# Altium schematic symbol library Capacitors.SchLib: 77 symbols (part 2 of 2)
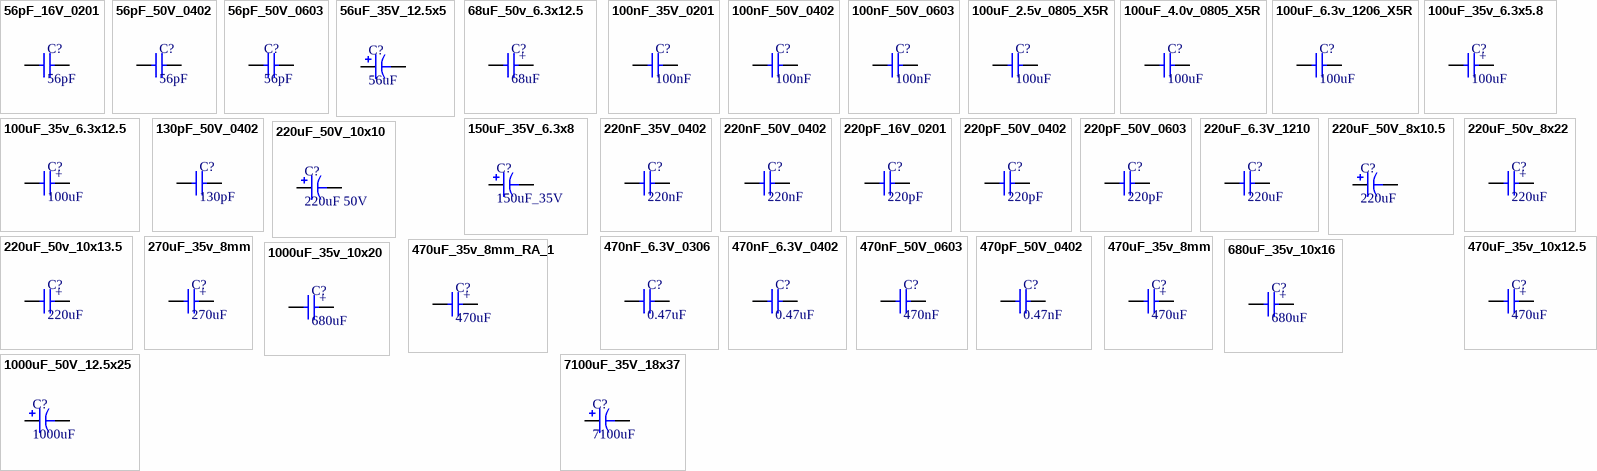
[diagram p2: symbols 56pF_16V_0201 to 7100uF_35V_18x37]

## 68uF_50v_6.3x12.5
designator C?, comment 68uF
CAP ALUM 68UF 20% 50V RADIAL; Manufacturer: Nichicon; Manufacturer Part Number: UVK1H680MED1TD; Lifetime @ Temp.: 2000 Hrs @ 85°C; Polarization: Polar; Supplier 1: Digi-Key; RoHS: RoHS Compliant; Category: Capacitors; Stock 1: 1147; Pricing 1: 1=0.31, 10=0.216, 100=0.1297, 500=0.09726, 1000=0.08213 (USD); Packaging: Cut Tape (CT); Part Status: Active; Tolerance: ±20%; ESR (Equivalent Series Resistance): -; Operating Temperature: -40°C ~ 85°C; Ratings: -; Applications: General Purpose; Lead Spacing: 0.098" (2.50mm); Size / Dimension: 0.248" Dia (6.30mm); Height - Seated (Max): 0.492" (12.50mm); Surface Mount Land Size: -; Mounting Type: Through Hole; Package / Case: Radial, Can; ComponentLink1URL: http://nichicon-us.com/english/products/pdfs/e-uvk.pdf; ComponentLink1Description: http://nichicon-us.com/english/products/pdfs/e-uvk.pdf; Supplier Part Number 1: 493-12580-1-ND
footprint CapAlu6.3mmx12.5mm (Capacitor Aluminum 6.3mm OD)
pins: 1, 2
text: +

## 100nF_35V_0201
designator C?, comment 100nF
CAP CER 0.1UF 35V X5R 0201; Manufacturer: Taiyo Yuden; Manufacturer Part Number: GMK063BJ104KP-F; Tolerance: ±10%; Notification: Current market demand for these product types have resulted in fluctuating and extending lead times. Lead times may differ.; Supplier 1: Digi-Key; RoHS: RoHS Compliant; Category: Capacitors; Stock 1: 20719; Pricing 1: 1=0.16, 10=0.115, 100=0.0541, 500=0.03792, 1000=0.03139, 2500=0.02922, 5000=0.02673 (USD); Packaging: Cut Tape (CT); Part Status: Active; Voltage - Rated: 35V; Temperature Coefficient: X5R; Operating Temperature: -55°C ~ 85°C; Features: -; Ratings: -; Applications: SMPS Filtering; Failure Rate: -; Mounting Type: Surface Mount, MLCC; Package / Case: 0201 (0603 Metric); Size / Dimension: 0.024" L x 0.012" W (0.60mm x 0.30mm); Height - Seated (Max): -; Thickness (Max): 0.015" (0.39mm); Lead Spacing: -; Lead Style: -; ComponentLink1URL: http://ds.yuden.co.jp/TYCOMPAS/ut/detail.do?productNo=GMK063BJ104KP-F&fileName=GMK063BJ104KP-F_SS&mode=specSheetDownload; ComponentLink1Description: http://ds.yuden.co.jp/TYCOMPAS/ut/detail.do?productNo=GMK063BJ104KP-F&fileName=GMK063BJ104KP-F_SS&mode=specSheetDownload; Supplier Part Number 1: 587-6007-1-ND
footprint CAPC0603X03N (Chip Capacitor, 2-Leads, Body 0.60x0.30mm, IPC Medium Density)
pins: 1, 2

## 100nF_50V_0402
designator C?, comment 100nF
CAP CER 100NF 50V 20% X5R 0402; Manufacturer: TDK Corporation; Manufacturer Part Number: C1005X5R1H104M050BB; Capacitance: 0.1µF; Supplier 1: Digi-Key; RoHS: RoHS Compliant; Category: Capacitors; Stock 1: 218263; Pricing 1: 1=0.18, 10=0.122, 100=0.0579, 250=0.04872, 500=0.0408, 1000=0.03348, 5000=0.02831 (CAD); Packaging: Cut Tape (CT); Tolerance: ±20%; Voltage - Rated: 50V; Temperature Coefficient: X5R; Mounting Type: Surface Mount, MLCC; Operating Temperature: -55°C ~ 85°C; Applications: General Purpose; Ratings: -; Package / Case: 0402 (1005 Metric); Size / Dimension: 0.039" L x 0.020" W (1.00mm x 0.50mm); Height - Seated (Max): -; Thickness (Max): 0.022" (0.55mm); Lead Spacing: -; Features: -; Lead Style: -; ComponentLink1URL: http://product.tdk.com/en/catalog/datasheets/mlcc_commercial_general_en.pdf; ComponentLink1Description: http://product.tdk.com/en/catalog/datasheets/mlcc_commercial_general_en.pdf; Supplier Part Number 1: 445-5943-1-ND
footprint CAP_0402_M (Chip Capacitor, 2-Leads, Body 1.00x0.50mm, IPC Medium Density)
footprint CAP_0402_L (Chip Capacitor, 2-Leads, Body 1.00x0.50mm, IPC High Density)
pins: 1, 2

## 100nF_50V_0603
designator C?, comment 100nF
CAP CER 0.1UF 50V 20% X7R 0603; Manufacturer: Kemet; Manufacturer Part Number: C0603C104M5RACTU; Capacitance: 0.1µF; Supplier 1: Digi-Key; Supplier Part Number 1: 399-7845-1-ND; RoHS: RoHS Compliant; Category: Capacitors; Stock 1: 171007; Pricing 1: 1=0.13, 10=0.034, 25=0.024, 50=0.0184, 100=0.0155, 250=0.01268, 1000=0.0083 (CAD); Packaging: Cut Tape (CT); Tolerance: ±20%; Voltage - Rated: 50V; Temperature Coefficient: X7R; Mounting Type: Surface Mount, MLCC; Operating Temperature: -55°C ~ 125°C; Applications: General Purpose; Ratings: -; Package / Case: 0603 (1608 Metric); Size / Dimension: 0.063" L x 0.031" W (1.60mm x 0.80mm); Height - Seated (Max): -; Thickness (Max): 0.034" (0.87mm); Lead Spacing: -; Features: -; Lead Style: -; ComponentLink1URL: http://www.kemet.com/docfinder?Partnumber=C0603C104M5RACTU; ComponentLink1Description: http://www.kemet.com/docfinder?Partnumber=C0603C104M5RACTU
footprint CAP_0603 (Chip Capacitor, 2-Leads, Body 1,6x0,8mm, IPC High Density)
pins: 1, 2

## 100uF_2.5v_0805_X5R
designator C?, comment 100uF
CAP CER 100UF 2.5V X5R 0805; Manufacturer: Murata Electronics North America; Manufacturer Part Number: GRM21BR60E107ME15L; Tolerance: ±20%; Notification: Current market demand for these product types have resulted in fluctuating and extending lead times. Lead times may differ.; Supplier 1: Digi-Key; RoHS: RoHS Compliant; Category: Capacitors; Stock 1: 30000; Pricing 1: 1=1.21, 10=0.956, 100=0.7167, 500=0.54154, 1000=0.47783 (USD); Packaging: Cut Tape (CT); Part Status: Active; Voltage - Rated: 2.5V; Temperature Coefficient: X5R; Operating Temperature: -55°C ~ 85°C; Features: -; Ratings: -; Applications: General Purpose; Mounting Type: Surface Mount, MLCC; Package / Case: 0805 (2012 Metric); Size / Dimension: 0.079" L x 0.049" W (2.00mm x 1.25mm); Height - Seated (Max): -; Thickness (Max): 0.057" (1.45mm); Lead Spacing: -; Lead Style: -; ComponentLink1URL: http://search.murata.co.jp/Ceramy/image/img/A01X/G101/ENG/GRM21BR60E107ME15-01.pdf; ComponentLink1Description: http://search.murata.co.jp/Ceramy/image/img/A01X/G101/ENG/GRM21BR60E107ME15-01.pdf; Supplier Part Number 1: 490-13979-1-ND
footprint CAPC2012X10L (Chip Capacitor, 2-Leads, Body 2.00x1.25mm, IPC High Density)
pins: 1, 2

## 100uF_4.0v_0805_X5R
designator C?, comment 100uF
CAP CER 100UF 4.0V X5R 0805; Manufacturer: Murata Electronics North America; Manufacturer Part Number: GRM21BR60G107ME15L; Tolerance: ±20%; Voltage - Rated: 4V; Notification: Current market demand for these product types have resulted in fluctuating and extending lead times. Lead times may differ.; Supplier 1: Digi-Key; RoHS: RoHS Compliant; Category: Capacitors; Stock 1: 30000; Pricing 1: 1=1.21, 10=0.956, 100=0.7167, 500=0.54154, 1000=0.47783 (USD); Packaging: Cut Tape (CT); Part Status: Active; Temperature Coefficient: X5R; Operating Temperature: -55°C ~ 85°C; Features: -; Ratings: -; Applications: General Purpose; Mounting Type: Surface Mount, MLCC; Package / Case: 0805 (2012 Metric); Size / Dimension: 0.079" L x 0.049" W (2.00mm x 1.25mm); Height - Seated (Max): -; Thickness (Max): 0.057" (1.45mm); Lead Spacing: -; Lead Style: -; ComponentLink1URL: https://search.murata.co.jp/Ceramy/image/img/A01X/partnumbering_e_01.pdf; ComponentLink1Description: https://search.murata.co.jp/Ceramy/image/img/A01X/partnumbering_e_01.pdf; Supplier Part Number 1: 490-10510-1-ND
footprint CAPC2012X10L (Chip Capacitor, 2-Leads, Body 2.00x1.25mm, IPC High Density)
pins: 1, 2

## 100uF_6.3v_1206_X5R
designator C?, comment 100uF
CAP CER 100UF 6.3V X5R 1206; Manufacturer: Murata Electronics North America; Manufacturer Part Number: GRM31CR60J107ME39L; Capacitance: 100µF; Tolerance: ±20%; Supplier 1: Digi-Key; RoHS: RoHS Compliant; Category: Capacitors; Stock 1: 450179; Pricing 1: 1=1.23, 10=1.048, 50=0.771, 100=0.6128, 250=0.51396, 500=0.46456, 1000=0.42502 (CAD); Packaging: Cut Tape (CT); Voltage - Rated: 6.3V; Temperature Coefficient: X5R; Mounting Type: Surface Mount, MLCC; Operating Temperature: -55°C ~ 85°C; Applications: General Purpose; Ratings: -; Package / Case: 1206 (3216 Metric); Size / Dimension: 0.126" L x 0.063" W (3.20mm x 1.60mm); Height - Seated (Max): -; Thickness (Max): 0.071" (1.80mm); Lead Spacing: -; Features: -; Lead Style: -; ComponentLink1URL: http://www.murata.com/~/media/webrenewal/support/library/catalog/products/capacitor/mlcc/c02e.pdf; ComponentLink1Description: http://www.murata.com/~/media/webrenewal/support/library/catalog/products/capacitor/mlcc/c02e.pdf; Supplier Part Number 1: 490-4539-1-ND
footprint CAP_1206 (Chip Capacitor, 2-Leads, Body 3,1x1,6mm, IPC High Density)
pins: 1, 2

## 100uF_35v_6.3x5.8
designator C?, comment 100uF
Capacitor 35v 100uF 6.3mm; Manufacturer: Panasonic Electronic Components; Manufacturer Part Number: EEE-FT1V101AP; Capacitance: 100µF; Tolerance: ±20%; ESR (Equivalent Series Resistance): 260 mOhm; Lifetime @ Temp.: 2000 Hrs @ 105°C; Ripple Current: 195mA; Surface Mount Land Size: 0.260" L x 0.260" W (6.60mm x 6.60mm); Supplier 1: Digi-Key; RoHS: RoHS Compliant; Category: Capacitors; Stock 1: 18000; Pricing 1: 1=1.12, 10=0.943, 25=0.774, 50=0.6754, 100=0.5911, 250=0.4644, 500=0.42218 (CAD); Packaging: Cut Tape (CT); Voltage Rating: 35V; Operating Temperature: -55°C ~ 105°C; Type: -; Applications: Automotive; Impedance: -; Lead Spacing: -; Size / Dimension: 0.248" Dia (6.30mm); Height - Seated (Max): 0.240" (6.10mm); Mounting Type: Surface Mount; Package / Case: Radial, Can - SMD; ComponentLink1URL: http://industrial.panasonic.com/lecs/www-data/pdf/ABA0000/ABA0000CE135.pdf; ComponentLink1Description: http://industrial.panasonic.com/lecs/www-data/pdf/ABA0000/ABA0000CE135.pdf; Supplier Part Number 1: PCE5016CT-ND
footprint CAPAE7266X66M (Aluminum Electrolytic Capacitor, Body 6.60x6.60x6.60mm, IPC Low Density)
pins: 1, 2
text: +

## 100uF_35v_6.3x12.5
designator C?, comment 100uF
Capacitor 35v 100uF 6.3mm; Manufacturer: Nichicon; Manufacturer Part Number: UHV1V101MED; Capacitance: 100µF; Tolerance: ±20%; Lifetime @ Temp.: 5000 Hrs @ 105°C; Polarization: Polar; Ripple Current: 220mA @ 120Hz; Impedance: 100 mOhm; Supplier 1: Digi-Key; RoHS: RoHS Compliant; Category: Capacitors; Stock 1: 5561; Pricing 1: 1=0.46, 10=0.32, 25=0.262, 50=0.224, 100=0.1919, 250=0.15992, 500=0.14394, 1000=0.12155, 2500=0.11515 (CAD); Packaging: Bulk; Voltage Rating: 35V; ESR (Equivalent Series Resistance): -; Operating Temperature: -40°C ~ 105°C; Applications: General Purpose; Lead Spacing: 0.098" (2.50mm); Size / Dimension: 0.248" Dia (6.30mm); Height - Seated (Max): 0.492" (12.50mm); Surface Mount Land Size: -; Mounting Type: Through Hole; Package / Case: Radial, Can; ComponentLink1URL: http://nichicon-us.com/english/products/pdfs/e-uhv.pdf; ComponentLink1Description: http://nichicon-us.com/english/products/pdfs/e-uhv.pdf; Supplier Part Number 1: 493-13394-ND
footprint CapAlu6.3mmx12.5mm (Capacitor Aluminum 6.3mm OD)
pins: 1, 2
text: +

## 130pF_50V_0402
designator C?, comment 130pF
CAP CER 130PF 50V NP0 0402; Manufacturer: Murata Electronics North America; Manufacturer Part Number: GRM1555C1H131JA01D; Tolerance: ±5%; Temperature Coefficient: C0G, NP0; Supplier 1: Digi-Key; Supplier Part Number 1: 490-3228-1-ND; RoHS: RoHS Compliant; Category: Capacitors; Stock 1: 45827; Pricing 1: 1=0.15, 10=0.096, 50=0.0522, 100=0.0443, 250=0.03616, 500=0.03094, 1000=0.0241, 5000=0.02008 (CAD); Packaging: Cut Tape (CT); Capacitance: 130pF; Voltage - Rated: 50V; Mounting Type: Surface Mount, MLCC; Operating Temperature: -55°C ~ 125°C; Applications: General Purpose; Ratings: -; Package / Case: 0402 (1005 Metric); Size / Dimension: 0.039" L x 0.020" W (1.00mm x 0.50mm); Height - Seated (Max): -; Thickness (Max): 0.022" (0.55mm); Lead Spacing: -; Features: -; Lead Style: -; ComponentLink1URL: http://www.murata.com/~/media/webrenewal/support/library/catalog/products/capacitor/mlcc/c02e.pdf; ComponentLink1Description: http://www.murata.com/~/media/webrenewal/support/library/catalog/products/capacitor/mlcc/c02e.pdf
footprint CAP_0402_M (Chip Capacitor, 2-Leads, Body 1.00x0.50mm, IPC Medium Density)
pins: 1, 2

## 150uF_35V_6.3x8
designator C?, comment 150uF_35V
on 150µF 35V Aluminum Capacitors Radial, Can - SMD 160 mohm @ 100kHz 2000 Hrs @ 105°C; Manufacturer: Panasonic Electronic Components; Manufacturer Part Number: EEE-FTV151XAP; Tolerance: ±20%; Polarization: Polar; Ripple Current: 390mA @ 120Hz; Surface Mount Land Size: 0.260" L x 0.260" W (6.60mm x 6.60mm); Supplier 1: Digi-Key; RoHS: RoHS Compliant; Category: Capacitors; Stock 1: 24581; Pricing 1: 1=1.33, 10=1.134, 25=0.9412, 50=0.8338, 100=0.6629, 250=0.55592 (CAD); Packaging: Cut Tape (CT); Part Status: Active; Capacitance: 150µF; Voltage Rating: 35V; ESR (Equivalent Series Resistance): 160 mohm @ 100kHz; Lifetime @ Temp.: 2000 Hrs @ 105°C; Operating Temperature: -55°C ~ 105°C; Applications: General Purpose; Impedance: -; Lead Spacing: -; Size / Dimension: 0.248" Dia (6.30mm); Height - Seated (Max): 0.315" (8.00mm); Mounting Type: Surface Mount; Package / Case: Radial, Can - SMD; ComponentLink1URL: http://industrial.panasonic.com/cdbs/www-data/pdf/RDE0000/ABA0000C35.pdf; ComponentLink1Description: http://industrial.panasonic.com/cdbs/www-data/pdf/RDE0000/ABA0000C35.pdf; Supplier Part Number 1: PCE5017CT-ND
footprint CAPAE_66X66X8 (Aluminum Electrolytic Capacitor, Body 6.60x6.60x7.70mm, IPC Low Density)
pins: 1, 2

## 220nF_35V_0402
designator C?, comment 220nF
CAP CER 220NF 35V 20% X6S 0402; Manufacturer: Murata Electronics North America; Manufacturer Part Number: GRM155C8YA224ME01D; Capacitance: 0.22µF; Supplier 1: Digi-Key; RoHS: RoHS Compliant; Category: Capacitors; Stock 1: 8546; Pricing 1: 1=0.14, 10=0.062, 50=0.0336, 100=0.0283, 250=0.02316, 500=0.0198, 1000=0.01542, 5000=0.01285 (CAD); Packaging: Cut Tape (CT); Tolerance: ±20%; Voltage - Rated: 35V; Temperature Coefficient: X6S; Mounting Type: Surface Mount, MLCC; Operating Temperature: -55°C ~ 105°C; Applications: General Purpose; Ratings: -; Package / Case: 0402 (1005 Metric); Size / Dimension: 0.039" L x 0.020" W (1.00mm x 0.50mm); Height - Seated (Max): -; Thickness (Max): 0.022" (0.55mm); Lead Spacing: -; Features: -; Lead Style: -; ComponentLink1URL: http://www.murata.com/~/media/webrenewal/support/library/catalog/products/capacitor/mlcc/c02e.ashx; ComponentLink1Description: http://www.murata.com/~/media/webrenewal/support/library/catalog/products/capacitor/mlcc/c02e.ashx; Supplier Part Number 1: 490-10446-1-ND
footprint CAP_0402_M (Chip Capacitor, 2-Leads, Body 1.00x0.50mm, IPC Medium Density)
pins: 1, 2

## 220nF_50V_0402
designator C?, comment 220nF
CAP CER 220NF 50V 10% X5R 0402; Manufacturer: Taiyo Yuden; Manufacturer Part Number: UMK105BJ224KV-F; Capacitance: 0.22µF; Supplier 1: Digi-Key; RoHS: RoHS Compliant; Category: Capacitors; Stock 1: 143890; Pricing 1: 1=0.47, 10=0.356, 50=0.2072, 100=0.1657, 250=0.1184, 500=0.0805, 1000=0.06511, 5000=0.0509 (CAD); Packaging: Cut Tape (CT); Tolerance: ±10%; Voltage - Rated: 50V; Temperature Coefficient: X5R; Mounting Type: Surface Mount, MLCC; Operating Temperature: -55°C ~ 85°C; Applications: General Purpose; Ratings: -; Package / Case: 0402 (1005 Metric); Size / Dimension: 0.039" L x 0.020" W (1.00mm x 0.50mm); Height - Seated (Max): -; Thickness (Max): 0.022" (0.55mm); Lead Spacing: -; Features: -; Lead Style: -; ComponentLink1URL: http://www.yuden.co.jp/productdata/catalog/en/mlcc_all_e.pdf; ComponentLink1Description: http://www.yuden.co.jp/productdata/catalog/en/mlcc_all_e.pdf; Supplier Part Number 1: 587-3500-1-ND
footprint CAP_0402_M (Chip Capacitor, 2-Leads, Body 1.00x0.50mm, IPC Medium Density)
pins: 1, 2

## 220pF_16V_0201
designator C?, comment 220pF
CAP CER 220PF 16V X7R 0201; Manufacturer: Samsung Electro-Mechanics; Manufacturer Part Number: CL03B221KO3NNNC; Tolerance: ±10%; Notification: Current market demand for these product types have resulted in fluctuating and extending lead times. Lead times may differ.; Supplier 1: Digi-Key; RoHS: RoHS Compliant; Category: Capacitors; Stock 1: 8828; Pricing 1: 1=0.12, 10=0.087, 100=0.0389, 500=0.02778, 1000=0.02182, 2500=0.01984, 5000=0.01825 (USD); Packaging: Cut Tape (CT); Part Status: Active; Voltage - Rated: 16V; Temperature Coefficient: X7R; Operating Temperature: -55°C ~ 125°C; Features: -; Ratings: -; Applications: General Purpose; Mounting Type: Surface Mount, MLCC; Package / Case: 0201 (0603 Metric); Size / Dimension: 0.024" L x 0.012" W (0.60mm x 0.30mm); Height - Seated (Max): -; Thickness (Max): 0.013" (0.33mm); Lead Spacing: -; Lead Style: -; ComponentLink1URL: http://www.samsungsem.com/kr/support/product-search/mlcc/CL03B221KO3NNNC.jsp; ComponentLink1Description: http://www.samsungsem.com/kr/support/product-search/mlcc/CL03B221KO3NNNC.jsp; Supplier Part Number 1: 1276-1348-1-ND
footprint CAPC0603X03N (Chip Capacitor, 2-Leads, Body 0.60x0.30mm, IPC Medium Density)
pins: 1, 2

## 220pF_50V_0402
designator C?, comment 220pF
CAP CER 220PF 50V 5% X7R 0402; Manufacturer: Kemet; Manufacturer Part Number: C0402C221J5RACTU; Supplier 1: Digi-Key; RoHS: RoHS Compliant; Category: Capacitors; Stock 1: 29330; Pricing 1: 1=0.14, 10=0.051, 50=0.0282, 100=0.0238, 250=0.01948, 500=0.01666, 1000=0.01299, 2500=0.01169, 5000=0.01082 (CAD); Packaging: Cut Tape (CT); Capacitance: 220pF; Tolerance: ±5%; Voltage - Rated: 50V; Temperature Coefficient: X7R; Mounting Type: Surface Mount, MLCC; Operating Temperature: -55°C ~ 125°C; Applications: General Purpose; Ratings: -; Package / Case: 0402 (1005 Metric); Size / Dimension: 0.039" L x 0.020" W (1.00mm x 0.50mm); Height - Seated (Max): -; Thickness (Max): 0.022" (0.55mm); Lead Spacing: -; Features: -; Lead Style: -; ComponentLink1URL: http://www.kemet.com/docfinder?Partnumber=C0402C221J5RACTU; ComponentLink1Description: http://www.kemet.com/docfinder?Partnumber=C0402C221J5RACTU; Supplier Part Number 1: 399-8955-1-ND
footprint CAP_0402_M (Chip Capacitor, 2-Leads, Body 1.00x0.50mm, IPC Medium Density)
pins: 1, 2

## 220pF_50V_0603
designator C?, comment 220pF
CAP CER 220PF 50V 10% X7R 0603; Manufacturer: Kemet; Manufacturer Part Number: C0603C221K5RACTU; Supplier 1: Digi-Key; Supplier Part Number 1: 399-1071-1-ND; RoHS: RoHS Compliant; Category: Capacitors; Stock 1: 237279; Pricing 1: 1=0.13, 10=0.061, 25=0.0424, 50=0.0326, 100=0.0276, 250=0.0226, 1000=0.01476 (CAD); Packaging: Cut Tape (CT); Capacitance: 220pF; Tolerance: ±10%; Voltage - Rated: 50V; Temperature Coefficient: X7R; Mounting Type: Surface Mount, MLCC; Operating Temperature: -55°C ~ 125°C; Applications: General Purpose; Ratings: -; Package / Case: 0603 (1608 Metric); Size / Dimension: 0.063" L x 0.031" W (1.60mm x 0.80mm); Height - Seated (Max): -; Thickness (Max): 0.034" (0.87mm); Lead Spacing: -; Features: -; Lead Style: -; ComponentLink1URL: http://www.kemet.com/docfinder?Partnumber=C0603C221K5RACTU; ComponentLink1Description: http://www.kemet.com/docfinder?Partnumber=C0603C221K5RACTU
footprint CAP_0603 (Chip Capacitor, 2-Leads, Body 1,6x0,8mm, IPC High Density)
pins: 1, 2

## 220uF_6.3V_1210
designator C?, comment 220uF
220µF Conformal Coated Tantalum Capacitors 6.3V 1210; Manufacturer: AVX Corporation; Manufacturer Part Number: F950J227MBAAQ2; Manufacturer Size Code: B; Tolerance: ±20%; ESR (Equivalent Series Resistance): 400 mOhm; Supplier 1: Digi-Key; Supplier Part Number 1: 478-8404-1-ND; RoHS: RoHS Compliant; Category: Capacitors; Stock 1: 8643; Pricing 1: 1=1.95, 10=1.577, 25=1.434, 50=1.3764, 100=1.2044, 250=1.03236, 500=0.91766, 1000=0.80296 (USD); Packaging: Cut Tape (CT); Part Status: Active; Capacitance: 220µF; Voltage - Rated: 6.3V; Type: Conformal Coated; Operating Temperature: -55°C ~ 125°C; Mounting Type: Surface Mount; Package / Case: 1210 (3528 Metric); Size / Dimension: 0.138" L x 0.110" W (3.50mm x 2.80mm); Height - Seated (Max): 0.079" (2.00mm); Lead Spacing: -; Features: General Purpose; Lifetime @ Temp.: -; ComponentLink1URL: http://datasheets.avx.com/f95.pdf; ComponentLink1Description: http://datasheets.avx.com/f95.pdf
footprint CAPCP3528X20N (Chip Capacitor, 2-Leads, Body 3.50x2.80mm, IPC Medium Density)
pins: 1, 2

## 220uF_50V_8x10.5
designator C?, comment 220uF
CAP ALUM 220UF 20% 50V SMD; Manufacturer: Panasonic Electronic Components; Manufacturer Part Number: EEE-FT1H221AP; Capacitance: 220µF; ESR (Equivalent Series Resistance): 180 mOhm; Lifetime @ Temp.: 2000 Hrs @ 105°C; Ripple Current: 435.5mA; Surface Mount Land Size: 0.327" L x 0.327" W (8.30mm x 8.30mm); Supplier 1: Digi-Key; Supplier Part Number 1: PCE5025CT-ND; RoHS: RoHS Compliant; Category: Capacitors; Stock 1: 17071; Pricing 1: 1=1.47, 10=1.238, 25=1.0668, 50=1.0008, 100=0.9086, 250=0.79004 (CAD); Packaging: Cut Tape (CT); Tolerance: ±20%; Voltage Rating: 50V; Operating Temperature: -55°C ~ 105°C; Type: -; Applications: Automotive; Impedance: -; Lead Spacing: -; Size / Dimension: 0.315" Dia (8.00mm); Height - Seated (Max): 0.413" (10.50mm); Mounting Type: Surface Mount; Package / Case: Radial, Can - SMD; ComponentLink1URL: http://industrial.panasonic.com/lecs/www-data/pdf/ABA0000/ABA0000CE135.pdf; ComponentLink1Description: http://industrial.panasonic.com/lecs/www-data/pdf/ABA0000/ABA0000CE135.pdf
footprint CapAlu8mmx10.5mm_SMT (Capacitor Aluminum 8mm)
pins: 1, 2

## 220uF_50v_8x22
designator C?, comment 220uF
CAP ALUM 220UF 20% 50V THRU HOLE; Manufacturer: Panasonic; Manufacturer Part Number: EEUFS1H221L; Supplier 1: Digi-Key; Stock 1: 3417; Pricing 1: 1=0.7, 10=0.497, 100=0.3272, 500=0.2424, 1000=0.206, 2500=0.1939, 5000=0.1818 (USD); Supplier Part Number 1: P122401-ND
footprint Cap 8mm RA 22mm long
pins: 1, 2
text: +

## 220uF_50V_10x10
designator C?, comment 220uF 50V
CAP ALUM 220UF 20% 50V SMD; Manufacturer: Nichicon; Manufacturer Part Number: UWT1H221MNL1GS; Capacitance: 220µF; Lifetime @ Temp.: 1000 Hrs @ 105°C; Ripple Current: 220mA; Surface Mount Land Size: 0.406" L x 0.406" W (10.30mm x 10.30mm); Supplier 1: Digi-Key; Supplier Part Number 1: 493-2228-1-ND; RoHS: RoHS Compliant; Category: Capacitors; Stock 1: 15581; Pricing 1: 1=1.09, 10=1.041, 25=0.7376, 50=0.621, 100=0.5047, 250=0.41928 (CAD); Packaging: Cut Tape (CT); Tolerance: ±20%; Voltage Rating: 50V; ESR (Equivalent Series Resistance): -; Operating Temperature: -55°C ~ 105°C; Type: -; Applications: General Purpose; Impedance: -; Lead Spacing: -; Size / Dimension: 0.394" Dia (10.00mm); Height - Seated (Max): 0.394" (10.00mm); Mounting Type: Surface Mount; Package / Case: Radial, Can - SMD; ComponentLink1URL: http://nichicon-us.com/english/products/pdfs/e-wt.pdf; ComponentLink1Description: http://nichicon-us.com/english/products/pdfs/e-wt.pdf
footprint CAPALU10MMx10MM_SMT
pins: 1, 2

## 220uF_50v_10x13.5
designator C?, comment 220uF
CAP ALUM 220UF 50V 20% RADIAL; Manufacturer: Panasonic Electronic Components; Manufacturer Part Number: ECA-1HM221; Capacitance: 220µF; Lifetime @ Temp.: 2000 Hrs @ 85°C; Ripple Current: 400mA; Supplier 1: Digi-Key; Supplier Part Number 1: P5183-ND; RoHS: RoHS Compliant; Category: Capacitors; Stock 1: 35580; Pricing 1: 1=0.57, 50=0.3014, 100=0.2626, 500=0.19448, 1000=0.16531, 5000=0.14586, 10000=0.13614, 25000=0.13127 (CAD); Packaging: Bulk; Tolerance: ±20%; Voltage Rating: 50V; ESR (Equivalent Series Resistance): -; Operating Temperature: -40°C ~ 85°C; Type: -; Applications: General Purpose; Impedance: -; Lead Spacing: 0.197" (5.00mm); Size / Dimension: 0.394" Dia (10.00mm); Height - Seated (Max): 0.531" (13.50mm); Surface Mount Land Size: -; Mounting Type: Through Hole; Package / Case: Radial, Can; ComponentLink1URL: http://industrial.panasonic.com/www-cgi/jvcr13pz.cgi?E+PZ+3+ABA0012+ECA1HM221+7+WW; ComponentLink1Description: http://industrial.panasonic.com/www-cgi/jvcr13pz.cgi?E+PZ+3+ABA0012+ECA1HM221+7+WW
footprint CapAlu10mmx13.5mm (Capacitor Aluminum 10mm OD)
pins: 1, 2
text: +

## 270uF_35v_8mm
designator C?, comment 270uF
CAP ALUM 270UF 20% 35V RADIAL; Manufacturer: Nichicon; Manufacturer Part Number: UHV1V271MPD; Lifetime @ Temp.: 6000 Hrs @ 105°C; Polarization: Polar; Supplier 1: Digi-Key; RoHS: RoHS Compliant; Category: Capacitors; Stock 1: 1488; Pricing 1: 1=0.43, 10=0.305, 100=0.2007, 500=0.14868, 1000=0.12638, 2500=0.11894, 5000=0.11151 (USD); Packaging: Bulk; Part Status: Active; Tolerance: ±20%; ESR (Equivalent Series Resistance): -; Operating Temperature: -40°C ~ 105°C; Ratings: -; Applications: General Purpose; Lead Spacing: 0.138" (3.50mm); Size / Dimension: 0.315" Dia (8.00mm); Height - Seated (Max): 0.650" (16.50mm); Surface Mount Land Size: -; Mounting Type: Through Hole; Package / Case: Radial, Can; ComponentLink1URL: http://nichicon-us.com/english/products/pdfs/e-uhv.pdf; ComponentLink1Description: http://nichicon-us.com/english/products/pdfs/e-uhv.pdf; Supplier Part Number 1: 493-16313-ND
footprint Cap 8mm x 16.5mm
pins: 1, 2
text: +

## 470nF_6.3V_0306
designator C?, comment 0.47uF
CAP CER 0.47UF 50V 10% X5R 0306; Manufacturer: TDK Corporation; Manufacturer Part Number: C0816X5R0J474M050AC; Capacitance: 0.47µF; Tolerance: ±20%; Voltage - Rated: 6.3V; Supplier 1: Digi-Key; RoHS: RoHS Compliant; Category: Capacitors; Stock 1: 3919; Pricing 1: 1=0.64, 10=0.56, 100=0.2795, 250=0.22352, 500=0.20358, 1000=0.18362 (CAD); Packaging: Cut Tape (CT); Temperature Coefficient: X5R; Mounting Type: Surface Mount, MLCC; Operating Temperature: -55°C ~ 85°C; Applications: Bypass, Decoupling; Ratings: -; Package / Case: 0306 (0816 Metric); Size / Dimension: 0.031" L x 0.063" W (0.80mm x 1.60mm); Height - Seated (Max): -; Thickness (Max): 0.035" (0.90mm); Lead Spacing: -; Features: Low ESL (Reverse Geometry); Lead Style: -; ComponentLink1URL: https://product.tdk.com/info/en/catalog/datasheets/mlcc_commercial_lwreverse_en.pdf; ComponentLink1Description: https://product.tdk.com/info/en/catalog/datasheets/mlcc_commercial_lwreverse_en.pdf; Supplier Part Number 1: 445-13744-1-ND
footprint CAPC0816X09N (Chip Capacitor, 2-Leads, Body 0.80x1.60mm, IPC Medium Density)
pins: 1, 2

## 470nF_6.3V_0402
designator C?, comment 0.47uF
CAP CER 0.47UF 50V 10% X5R 0402; Manufacturer: Murata Electronics North America; Manufacturer Part Number: GRM155R60J474KE19D; Capacitance: 0.47µF; Voltage - Rated: 6.3V; Supplier 1: Digi-Key; Supplier Part Number 1: 490-3266-1-ND; RoHS: RoHS Compliant; Category: Capacitors; Stock 1: 911073; Pricing 1: 1=0.15, 10=0.106, 50=0.0578, 100=0.049, 250=0.04008, 500=0.0343, 1000=0.02673, 5000=0.02228 (CAD); Packaging: Cut Tape (CT); Tolerance: ±10%; Temperature Coefficient: X5R; Mounting Type: Surface Mount, MLCC; Operating Temperature: -55°C ~ 85°C; Applications: General Purpose; Ratings: -; Package / Case: 0402 (1005 Metric); Size / Dimension: 0.039" L x 0.020" W (1.00mm x 0.50mm); Height - Seated (Max): -; Thickness (Max): 0.022" (0.55mm); Lead Spacing: -; Features: -; Lead Style: -; ComponentLink1URL: http://www.murata.com/~/media/webrenewal/support/library/catalog/products/capacitor/mlcc/c02e.pdf; ComponentLink1Description: http://www.murata.com/~/media/webrenewal/support/library/catalog/products/capacitor/mlcc/c02e.pdf
footprint CAP_0402_M (Chip Capacitor, 2-Leads, Body 1.00x0.50mm, IPC Medium Density)
pins: 1, 2

## 470nF_50V_0603
designator C?, comment 470nF
CAP CER 0.47UF 50V 10% X5R 0603; Manufacturer: Taiyo Yuden; Manufacturer Part Number: UMK107ABJ474KA-T; Capacitance: 0.47µF; Supplier 1: Digi-Key; Supplier Part Number 1: 587-3171-1-ND; RoHS: RoHS Compliant; Category: Capacitors; Stock 1: 269861; Pricing 1: 1=0.14, 10=0.104, 50=0.0566, 100=0.0479, 250=0.0392, 500=0.03356, 1000=0.02564 (CAD); Packaging: Cut Tape (CT); Tolerance: ±10%; Voltage - Rated: 50V; Temperature Coefficient: X5R; Mounting Type: Surface Mount, MLCC; Operating Temperature: -55°C ~ 85°C; Applications: General Purpose; Ratings: -; Package / Case: 0603 (1608 Metric); Size / Dimension: 0.063" L x 0.031" W (1.60mm x 0.80mm); Height - Seated (Max): -; Thickness (Max): 0.037" (0.95mm); Lead Spacing: -; Features: -; Lead Style: -; ComponentLink1URL: http://media.digikey.com/pdf/Data%20Sheets/Taiyo%20Yuden%20PDFs%20URL%20links/UMK107ABJ474KA-T.pdf; ComponentLink1Description: http://media.digikey.com/pdf/Data%20Sheets/Taiyo%20Yuden%20PDFs%20URL%20links/UMK107ABJ474KA-T.pdf
footprint CAP_0603 (Chip Capacitor, 2-Leads, Body 1,6x0,8mm, IPC High Density)
pins: 1, 2

## 470pF_50V_0402
designator C?, comment 0.47nF
CAP CER 470PF 50V X5R 0402; Manufacturer: TDK Corporation; Manufacturer Part Number: C1005X5R1H471M050BA; Tolerance: ±20%; Supplier 1: Digi-Key; RoHS: RoHS Compliant; Category: Capacitors; Stock 1: 36562; Pricing 1: 1=0.15, 10=0.036, 100=0.0167, 250=0.01368, 500=0.0117, 1000=0.00912, 5000=0.0076 (CAD); Packaging: Cut Tape (CT); Capacitance: 470pF; Voltage - Rated: 50V; Temperature Coefficient: X5R; Mounting Type: Surface Mount, MLCC; Operating Temperature: -55°C ~ 85°C; Applications: General Purpose; Ratings: -; Package / Case: 0402 (1005 Metric); Size / Dimension: 0.039" L x 0.020" W (1.00mm x 0.50mm); Height - Seated (Max): -; Thickness (Max): 0.022" (0.55mm); Lead Spacing: -; Features: -; Lead Style: -; ComponentLink1URL: https://product.tdk.com/info/en/catalog/datasheets/mlcc_commercial_general_en.pdf; ComponentLink1Description: https://product.tdk.com/info/en/catalog/datasheets/mlcc_commercial_general_en.pdf; Supplier Part Number 1: 445-13856-1-ND
footprint CAP_0402_M (Chip Capacitor, 2-Leads, Body 1.00x0.50mm, IPC Medium Density)
pins: 1, 2

## 470uF_35v_8mm
designator C?, comment 470uF
CAP ALUM 470UF 20% 35V RADIAL; Manufacturer: Panasonic ECG; Manufacturer Part Number: EEU-FR1V471LB; Ripple Current: 1.56A; Impedance: 30mR; Polarity: Polar; Life (Hours): 9000Hour; Lead Diameter: 0.6mm; Supplier 1: Digi-Key; Supplier Part Number 1: P15392CT-ND; Stock 1: 7144; Pricing 1: 1=0.79, 10=0.557, 100=0.3671, 500=0.2719 (USD); Mount: Through Hole,PCB; Case/Package: Radial; Contact Plating: Tin; Min Operating Temperature: -40°C; Max Operating Temperature: 105°C; Capacitance: 470uF; Tolerance: 20%; Voltage Rating: 35V; Voltage Rating (DC): 35V; Package Quantity: 1; Packaging: Tape and Reel; ESR (Equivalent Series Resistance): 30mR; Termination: Radial; Diameter: 8mm; Length: 20mm; Height: 20mm; Lead Pitch: 5mm; Height - Seated (Max): 0.866inch; Radiation Hardening: No; REACH SVHC: No SVHC; Lead Free: Lead Free; ComponentLink1URL: https://datasheet.ciiva.com/6121/1725490-6121558.pdf; ComponentLink1Description: https://datasheet.ciiva.com/6121/1725490-6121558.pdf; ComponentLink2URL: https://datasheet.ciiva.com/11678/aba0000ce132-11678326.pdf; ComponentLink2Description: https://datasheet.ciiva.com/11678/aba0000ce132-11678326.pdf; ComponentLink3URL: https://datasheet.ciiva.com/16592/aba0000ce132-16592279.pdf; ComponentLink3Description: https://datasheet.ciiva.com/16592/aba0000ce132-16592279.pdf
footprint Cap 8mm
pins: 1, 2
text: +

## 470uF_35v_8mm_RA_1
designator C?, comment 470uF
CAP ALUM 470UF 35V 20% RADIAL; Manufacturer: Panasonic Electronic Components; Manufacturer Part Number: EEU-FR1V471LB; Capacitance: 470µF; Lifetime @ Temp.: 9000 Hrs @ 105°C; Ripple Current: 1.56A; Impedance: 30 mOhm; Supplier 1: Digi-Key; Supplier Part Number 1: P15392CT-ND; RoHS: RoHS Compliant; Category: Capacitors; Stock 1: 214; Pricing 1: 1=1.29, 10=1.082, 25=0.8892, 50=0.7758, 100=0.679, 250=0.53344, 500=0.48496 (CAD); Packaging: Cut Tape (CT); Tolerance: ±20%; Voltage Rating: 35V; ESR (Equivalent Series Resistance): -; Operating Temperature: -40°C ~ 105°C; Type: -; Applications: General Purpose; Lead Spacing: 0.197" (5.00mm); Size / Dimension: 0.315" Dia (8.00mm); Height - Seated (Max): 0.866" (22.00mm); Surface Mount Land Size: -; Mounting Type: Through Hole; Package / Case: Radial, Can; ComponentLink1URL: http://media.digikey.com/pdf/Data%20Sheets/Panasonic%20Electronic%20Components/EEU-FR_Series.pdf; ComponentLink1Description: http://media.digikey.com/pdf/Data%20Sheets/Panasonic%20Electronic%20Components/EEU-FR_Series.pdf
footprint Cap 8mm RA
pins: 1, 2
text: +

## 470uF_35v_10x12.5
designator C?, comment 470uF
Capacitor 35v 470uF 10mm; Manufacturer: Rubycon; Manufacturer Part Number: 35PK470MEFC10X12.5; Capacitance: 470µF; Tolerance: ±20%; Lifetime @ Temp.: 2000 Hrs @ 85°C; Ripple Current: 680mA; Supplier 1: Digi-Key; Supplier Part Number 1: 1189-1743-ND; RoHS: RoHS Compliant; Category: Capacitors; Stock 1: 5321; Pricing 1: 1=0.7, 10=0.489, 25=0.4184, 50=0.3706, 100=0.3227, 250=0.27488, 500=0.23902, 1000=0.20317, 2500=0.19122 (CAD); Packaging: Bulk; Voltage Rating: 35V; ESR (Equivalent Series Resistance): -; Operating Temperature: -40°C ~ 85°C; Type: -; Applications: General Purpose; Impedance: -; Lead Spacing: 0.197" (5.00mm); Size / Dimension: 0.394" Dia (10.00mm); Height - Seated (Max): 0.551" (14.00mm); Surface Mount Land Size: -; Mounting Type: Through Hole; Package / Case: Radial, Can; ComponentLink1URL: http://www.rubycon.co.jp/en/catalog/e_pdfs/aluminum/e_pk.pdf; ComponentLink1Description: http://www.rubycon.co.jp/en/catalog/e_pdfs/aluminum/e_pk.pdf
footprint CapAlu10mmx12.5mm (Capacitor Aluminum 10mm OD)
pins: 1, 2
text: +

## 680uF_35v_10x16
designator C?, comment 680uF
Capacitor 35v 680uF 10mm; Manufacturer: Panasonic Electronic Components; Manufacturer Part Number: EEU-HD1V681; Capacitance: 680µF; Tolerance: ±20%; Lifetime @ Temp.: 2000 Hrs @ 105°C; Ripple Current: 460mA; Supplier 1: Digi-Key; Supplier Part Number 1: P15174-ND; RoHS: RoHS Compliant; Category: Capacitors; Stock 1: 256; Pricing 1: 1=1.4, 10=1.104, 25=1.0124, 50=0.9574, 100=0.8285, 250=0.73648, 500=0.626, 1000=0.55236, 2500=0.51554 (CAD); Packaging: Bulk; Voltage Rating: 35V; ESR (Equivalent Series Resistance): -; Operating Temperature: -55°C ~ 105°C; Type: -; Applications: General Purpose; Impedance: -; Lead Spacing: 0.197" (5.00mm); Size / Dimension: 0.394" Dia (10.00mm); Height - Seated (Max): 0.689" (17.50mm); Surface Mount Land Size: -; Mounting Type: Through Hole; Package / Case: Radial, Can; ComponentLink1URL: http://industrial.panasonic.com/www-cgi/jvcr13pz.cgi?E+PZ+3+ABA0127+0+9+WW; ComponentLink1Description: http://industrial.panasonic.com/www-cgi/jvcr13pz.cgi?E+PZ+3+ABA0127+0+9+WW
footprint CapAlu10mmx16mm (Capacitor Aluminum 10mm OD)
pins: 1, 2
text: +

## 1000uF_35v_10x20
designator C?, comment 680uF
Capacitor 35v 1000uF 10mm; Manufacturer: Rubycon; Manufacturer Part Number: 35PK1000MT810X20; Capacitance: 1000µF; Tolerance: ±20%; Lifetime @ Temp.: 2000 Hrs @ 85°C; Ripple Current: 1.18A; Supplier 1: Digi-Key; Supplier Part Number 1: 1189-1618-1-ND; RoHS: RoHS Compliant; Category: Capacitors; Stock 1: 359; Pricing 1: 1=1.28, 10=1.088, 25=0.9028, 50=0.8004, 100=0.6363, 250=0.5336, 500=0.48228 (CAD); Packaging: Cut Tape (CT); Voltage Rating: 35V; ESR (Equivalent Series Resistance): -; Operating Temperature: -40°C ~ 85°C; Type: -; Applications: General Purpose; Impedance: -; Lead Spacing: 0.197" (5.00mm); Size / Dimension: 0.394" Dia (10.00mm); Height - Seated (Max): 0.846" (21.50mm); Surface Mount Land Size: -; Mounting Type: Through Hole; Package / Case: Radial, Can; ComponentLink1URL: http://www.rubycon.co.jp/en/catalog/e_pdfs/aluminum/e_pk.pdf; ComponentLink1Description: http://www.rubycon.co.jp/en/catalog/e_pdfs/aluminum/e_pk.pdf
footprint CapAlu10mmx20mm (Capacitor Aluminum 10mm OD)
pins: 1, 2
text: +

## 1000uF_50V_12.5x25
designator C?, comment 1000uF
CAP ALUM 1000UF 20% 50V RADIAL; Manufacturer: Nichicon; Manufacturer Part Number: UVR1H102MHD1TO; Capacitance: 1000µF; Lifetime @ Temp.: 2000 Hrs @ 85°C; Ripple Current: 1.35A; Supplier 1: Digi-Key; Supplier Part Number 1: 493-12786-1-ND; RoHS: RoHS Compliant; Category: Capacitors; Stock 1: 0; Pricing 1: 1=1.69, 10=1.416, 25=1.22, 50=1.1448, 100=0.9039, 250=0.75324 (CAD); Packaging: Cut Tape (CT); Tolerance: ±20%; Voltage Rating: 50V; ESR (Equivalent Series Resistance): -; Operating Temperature: -40°C ~ 85°C; Type: -; Applications: General Purpose; Impedance: -; Lead Spacing: 0.197" (5.00mm); Size / Dimension: 0.492" Dia (12.50mm); Height - Seated (Max): 1.063" (27.00mm); Surface Mount Land Size: -; Mounting Type: Through Hole; Package / Case: Radial, Can; ComponentLink1URL: http://nichicon-us.com/english/products/pdfs/e-vr.pdf; ComponentLink1Description: http://nichicon-us.com/english/products/pdfs/e-vr.pdf
footprint CAPALU12.5mmx25mm (Capacitor Aluminum 12.5mm)
pins: 1, 2

## 7100uF_35V_18x37
designator C?, comment 7100uF
CAP ALUM 7100UF 20% 35V RADIAL; Manufacturer: United Chemi-Con; Manufacturer Part Number: ELBK350ELL712AMP1S; Conditionnement: En vrac; Statut de la pièce: Actif; Capacité: 7100 µF; Tolérance: 0 %, +30 %; ESR (résistance série équivalente): 17 mOhms à 100 kHz; Vie à temp.: 5000 heures à 105 °C; Température d’utilisation: -55 °C ~ 105 °C; Polarisation: Polarisé; Courant ondulé - Basse fréquence: 3,145 A à 120 Hz; Courant ondulé - Haute fréquence: 3,7 A à 100 kHz; Écartement des fils: 0,295 po (7,50 mm); Hauteur - Installé (max): 1,457 po (37,00 mm); Type de montage: Trou traversant; Boîtier: Radial, boîtier métallique; Supplier 1: Digi-Key; RoHS: RoHS Compliant; Category: Condensateurs; Stock 1: 415; Pricing 1: 1=4.16, 10=3.742, 100=2.8272, 500=2.32826, 1000=2.16195, 2500=2.15403 (EUR); Tension nominale: 35 V; Applications: Automobile; Impédance: -; Taille/Dimension: 0,709 po diam (18,00 mm); Superficie de montage en surface: -; ComponentLink1URL: http://www.chemi-con.co.jp/cgi-bin/CAT_DB/SEARCH/cat_db_al.cgi?e=e&j=p&pdfname=lbk; ComponentLink1Description: http://www.chemi-con.co.jp/cgi-bin/CAT_DB/SEARCH/cat_db_al.cgi?e=e&j=p&pdfname=lbk; Supplier Part Number 1: 565-4355-ND
footprint CAPALU18mmx37mm (Capacitor Aluminum 18mm)
pins: 1, 2